# Altium footprint library OLED_LCD.PcbLib: 22 footprints (part 2 of 2)
Each footprint in its own frame and in the unit in brackets; x right, y up, seen from the top. Pads: shape width x height; smd on the part's side, far side on the other; paste and mask are expansions set on the pad; w line width, h text height; cw(c..) or ccw(c..) is an arc to the next point about the centre after c.
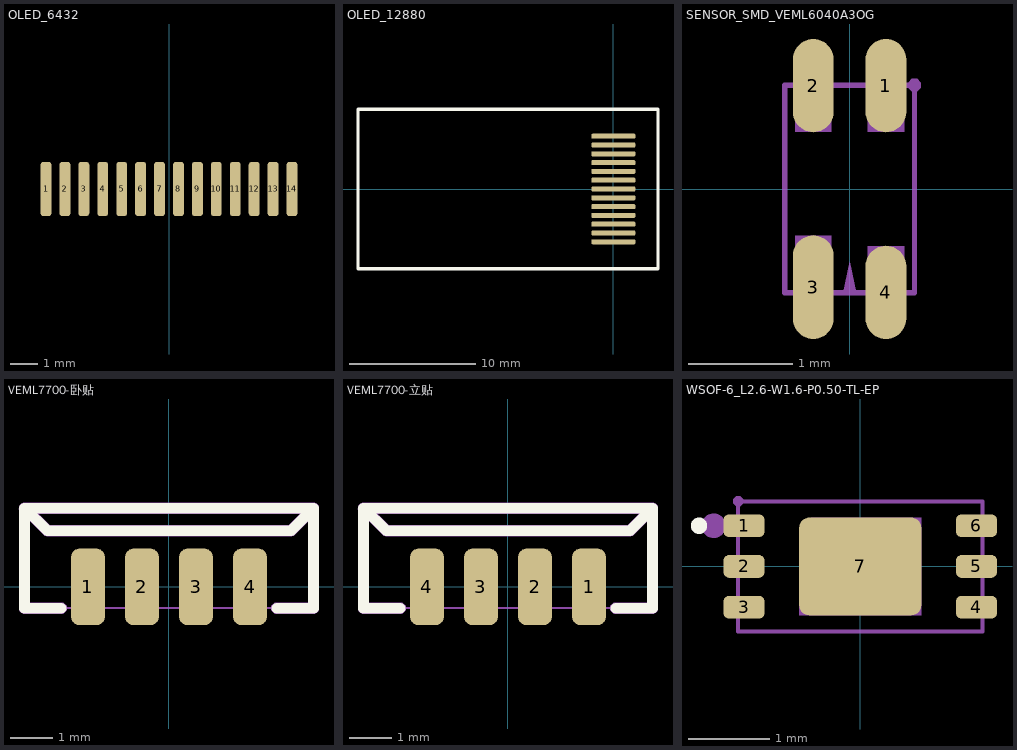
[diagram p1: the footprints below, top view; thin cyan lines are the x and y axes]

## OLED_6432 [mm] "OLED_64*32"
pads (14):
  rrect50% 0.4x2 smd: 1(-4.56,7.195) 2(-3.86,7.195) 3(-3.16,7.195) 4(-2.46,7.195) 5(-1.76,7.195) 6(-1.06,7.195) 7(-0.36,7.195) 8(0.34,7.195) 9(1.04,7.195) 10(1.74,7.195) 11(2.44,7.195) 12(3.14,7.195) 13(3.84,7.195) 14(4.54,7.195)
3D body "312.stp": height 3.43, standoff -0.02, extent -7.441,-0.277 7.441,12.096

## OLED_12880 [mm] "OLED_128*80"
pads (13):
  rrect50% 3.5x0.4 smd: 1(0,-4.2) 2(0,-3.5) 3(0,-2.8) 4(0,-2.1) 5(0,-1.4) 6(0,-0.7) 7(0,0) 8(0,0.7) 9(0,1.4) 10(0,2.1) 11(0,2.8) 12(0,3.5) 13(0,4.2)
Top Overlay:
  lines w0.254: -20.32,-6.35 -20.32,6.35 3.556,6.35 3.556,-6.35 -20.32,-6.35
3D body "Ctrl-DualBoard-Down v1.step": height 1.55, standoff 0.09, extent -20.182,-6.25 7.54,6.25

## SENSOR_SMD_VEML6040A3OG [mm]
pads (4):
  oval 0.392x0.9 smd: 1(0.35,0.996) 2(-0.35,0.996) 4(0.35,-0.995)
  oval 0.392x1 smd: 3(-0.35,-0.945)
Mechanical 6:
  drawing of 87 lines, arcs and shapes, not listed
Mechanical 15:
  region: -0.175,-1 -0.525,-1 -0.525,-0.45 -0.175,-0.45
  region: 0.525,-1 0.525,-0.55 0.175,-0.55 0.175,-1
  region: -0.175,1 -0.175,0.55 -0.525,0.55 -0.525,1
  region: 0.525,1 0.525,0.55 0.175,0.55 0.175,1
  region: 0.685,1 0.685,1.025 0.65,1.06 0.6,1.06 0.565,1.025 0.565,1 0.565,0.975 0.6,0.94 0.65,0.94 0.685,0.975 0.685,1
  lines w0.051: -0.625,-1 -0.625,1 0.625,1 0.625,-1 -0.625,-1

## VEML7700-卧贴 [mm]
pads (4):
  rrect50% 0.8x1.8 smd mask+0.05: 1(-1.905,0) 2(-0.635,0) 3(0.635,0) 4(1.905,0)
Top Overlay:
  lines w0.254: -2.536,-0.5 -3.4,-0.5 -3.4,1.85 ; 2.536,-0.5 3.4,-0.5 3.4,1.85 ; -3.4,1.85 3.4,1.85 ; -3.4,1.85 -3.39,1.85 -2.86,1.32 2.87,1.32 3.4,1.85
Mechanical 6:
  region: -2.86,1.193 -2.873,1.193 -2.897,1.198 -2.92,1.207 -2.941,1.221 -2.95,1.23 -3.455,1.736 -3.471,1.743 -3.498,1.767 -3.517,1.798 -3.527,1.832 -3.527,1.85 -3.527,1.875 -3.508,1.922 -3.472,1.958 -3.425,1.977 -3.4,1.977 -3.39,1.977 -3.377,1.977 -3.353,1.972 -3.33,1.963 -3.309,1.949 -3.3,1.94 -2.807,1.447 2.817,1.447 3.31,1.94 3.319,1.949 3.34,1.963 3.363,1.972 3.387,1.977 3.4,1.977 3.425,1.977 3.472,1.958 3.508,1.922 3.527,1.875 3.527,1.85 3.527,1.837 3.522,1.813 3.513,1.79 3.499,1.769 3.49,1.76 2.96,1.23 2.951,1.221 2.93,1.207 2.907,1.198 2.883,1.193 2.87,1.193 -2.86,1.193
  region: -2.536,-0.627 -3.4,-0.627 -3.425,-0.627 -3.472,-0.608 -3.508,-0.572 -3.527,-0.525 -3.527,-0.5 -3.527,1.85 -3.527,1.875 -3.508,1.922 -3.472,1.958 -3.425,1.977 -3.4,1.977 3.4,1.977 3.425,1.977 3.472,1.958 3.508,1.922 3.527,1.875 3.527,1.85 3.527,-0.5 3.527,-0.525 3.508,-0.572 3.472,-0.608 3.425,-0.627 3.4,-0.627 2.536,-0.627 2.484,-0.627 2.409,-0.553 2.409,-0.447 2.484,-0.373 2.536,-0.373 3.273,-0.373 3.273,1.723 -3.273,1.723 -3.273,-0.373 -2.536,-0.373 -2.484,-0.373 -2.409,-0.447 -2.409,-0.553 -2.484,-0.627 -2.536,-0.627
Mechanical 15:
  region: 1.655,0.5 2.155,0.5 2.155,-0.5 1.655,-0.5
  region: 0.385,0.5 0.885,0.5 0.885,-0.5 0.385,-0.5
  region: -0.885,0.5 -0.385,0.5 -0.385,-0.5 -0.885,-0.5
  region: -2.155,0.5 -1.655,0.5 -1.655,-0.5 -2.155,-0.5
  region: -3.34,-0.5 -3.34,-0.475 -3.375,-0.44 -3.425,-0.44 -3.46,-0.475 -3.46,-0.5 -3.46,-0.525 -3.425,-0.56 -3.375,-0.56 -3.34,-0.525 -3.34,-0.5
  lines w0.051: -3.4,-0.5 3.4,-0.5 3.4,1.85 -3.4,1.85 -3.4,-0.5

## VEML7700-立贴 [mm] "VEML7700-立贴"
pads (4):
  rrect50% 0.8x1.8 smd mask+0.05: 1(1.905,0) 2(0.635,0) 3(-0.635,0) 4(-1.905,0)
Top Overlay:
  lines w0.254: -2.536,-0.5 -3.4,-0.5 -3.4,1.85 ; 2.536,-0.5 3.4,-0.5 3.4,1.85 ; -3.4,1.85 3.4,1.85 ; -3.4,1.85 -3.39,1.85 -2.86,1.32 2.87,1.32 3.4,1.85
Mechanical 6:
  region: -2.86,1.193 -2.873,1.193 -2.897,1.198 -2.92,1.207 -2.941,1.221 -2.95,1.23 -3.455,1.736 -3.471,1.743 -3.498,1.767 -3.517,1.798 -3.527,1.832 -3.527,1.85 -3.527,1.875 -3.508,1.922 -3.472,1.958 -3.425,1.977 -3.4,1.977 -3.39,1.977 -3.377,1.977 -3.353,1.972 -3.33,1.963 -3.309,1.949 -3.3,1.94 -2.807,1.447 2.817,1.447 3.31,1.94 3.319,1.949 3.34,1.963 3.363,1.972 3.387,1.977 3.4,1.977 3.425,1.977 3.472,1.958 3.508,1.922 3.527,1.875 3.527,1.85 3.527,1.837 3.522,1.813 3.513,1.79 3.499,1.769 3.49,1.76 2.96,1.23 2.951,1.221 2.93,1.207 2.907,1.198 2.883,1.193 2.87,1.193 -2.86,1.193
  region: -2.536,-0.627 -3.4,-0.627 -3.425,-0.627 -3.472,-0.608 -3.508,-0.572 -3.527,-0.525 -3.527,-0.5 -3.527,1.85 -3.527,1.875 -3.508,1.922 -3.472,1.958 -3.425,1.977 -3.4,1.977 3.4,1.977 3.425,1.977 3.472,1.958 3.508,1.922 3.527,1.875 3.527,1.85 3.527,-0.5 3.527,-0.525 3.508,-0.572 3.472,-0.608 3.425,-0.627 3.4,-0.627 2.536,-0.627 2.484,-0.627 2.409,-0.553 2.409,-0.447 2.484,-0.373 2.536,-0.373 3.273,-0.373 3.273,1.723 -3.273,1.723 -3.273,-0.373 -2.536,-0.373 -2.484,-0.373 -2.409,-0.447 -2.409,-0.553 -2.484,-0.627 -2.536,-0.627
Mechanical 15:
  region: 1.655,0.5 2.155,0.5 2.155,-0.5 1.655,-0.5
  region: 0.385,0.5 0.885,0.5 0.885,-0.5 0.385,-0.5
  region: -0.885,0.5 -0.385,0.5 -0.385,-0.5 -0.885,-0.5
  region: -2.155,0.5 -1.655,0.5 -1.655,-0.5 -2.155,-0.5
  region: -3.34,-0.5 -3.34,-0.475 -3.375,-0.44 -3.425,-0.44 -3.46,-0.475 -3.46,-0.5 -3.46,-0.525 -3.425,-0.56 -3.375,-0.56 -3.34,-0.525 -3.34,-0.5
  lines w0.051: -3.4,-0.5 3.4,-0.5 3.4,1.85 -3.4,1.85 -3.4,-0.5
3D body "VEML7700.step": height 2.94, standoff -0.05, extent -3.371,-0.54 3.429,1.81

## WSOF-6_L2.6-W1.6-P0.50-TL-EP [mm]
pads (7):
  rrect50% 0.505x0.28 smd: 1(-1.427,0.5) 2(-1.427,0) 3(-1.427,-0.5) 4(1.427,-0.5) 5(1.427,0) 6(1.427,0.5)
  rrect20% 1.5x1.2 smd: 7(0,0)
Top Overlay:
  circle w0.15: c-1.98,0.5 r0.025
Mechanical 6:
  circle w0.15: c-1.8,0.5 r0.075
Mechanical 15:
  region: -0.6,0.6 0.75,0.6 0.75,-0.6 -0.75,-0.6 -0.75,0.45
  region: 1.5,0.61 1.2,0.61 1.2,0.39 1.5,0.39
  region: 1.5,0.11 1.2,0.11 1.2,-0.11 1.5,-0.11
  region: 1.5,-0.39 1.2,-0.39 1.2,-0.61 1.5,-0.61
  region: -1.5,-0.39 -1.2,-0.39 -1.2,-0.61 -1.5,-0.61
  region: -1.5,0.11 -1.2,0.11 -1.2,-0.11 -1.5,-0.11
  region: -1.5,0.61 -1.2,0.61 -1.2,0.39 -1.5,0.39
  region: -1.44,0.8 -1.44,0.825 -1.475,0.86 -1.525,0.86 -1.56,0.825 -1.56,0.8 -1.56,0.775 -1.525,0.74 -1.475,0.74 -1.44,0.775 -1.44,0.8
  lines w0.051: -1.5,-0.8 -1.5,0.8 1.5,0.8 1.5,-0.8 -1.5,-0.8
3D body "User Library-BH1750FVI-1.step": height 0.75, standoff -0.01, extent -1.5,-0.8 1.5,0.8